# Altium footprint library SparkFun-RF.PCBLIB: 87 footprints (part 2 of 6)
Each footprint in its own frame and in the unit in brackets; x right, y up, seen from the top. Pads: shape width x height; smd on the part's side, far side on the other; paste and mask are expansions set on the pad; w line width, h text height; cw(c..) or ccw(c..) is an arc to the next point about the centre after c.
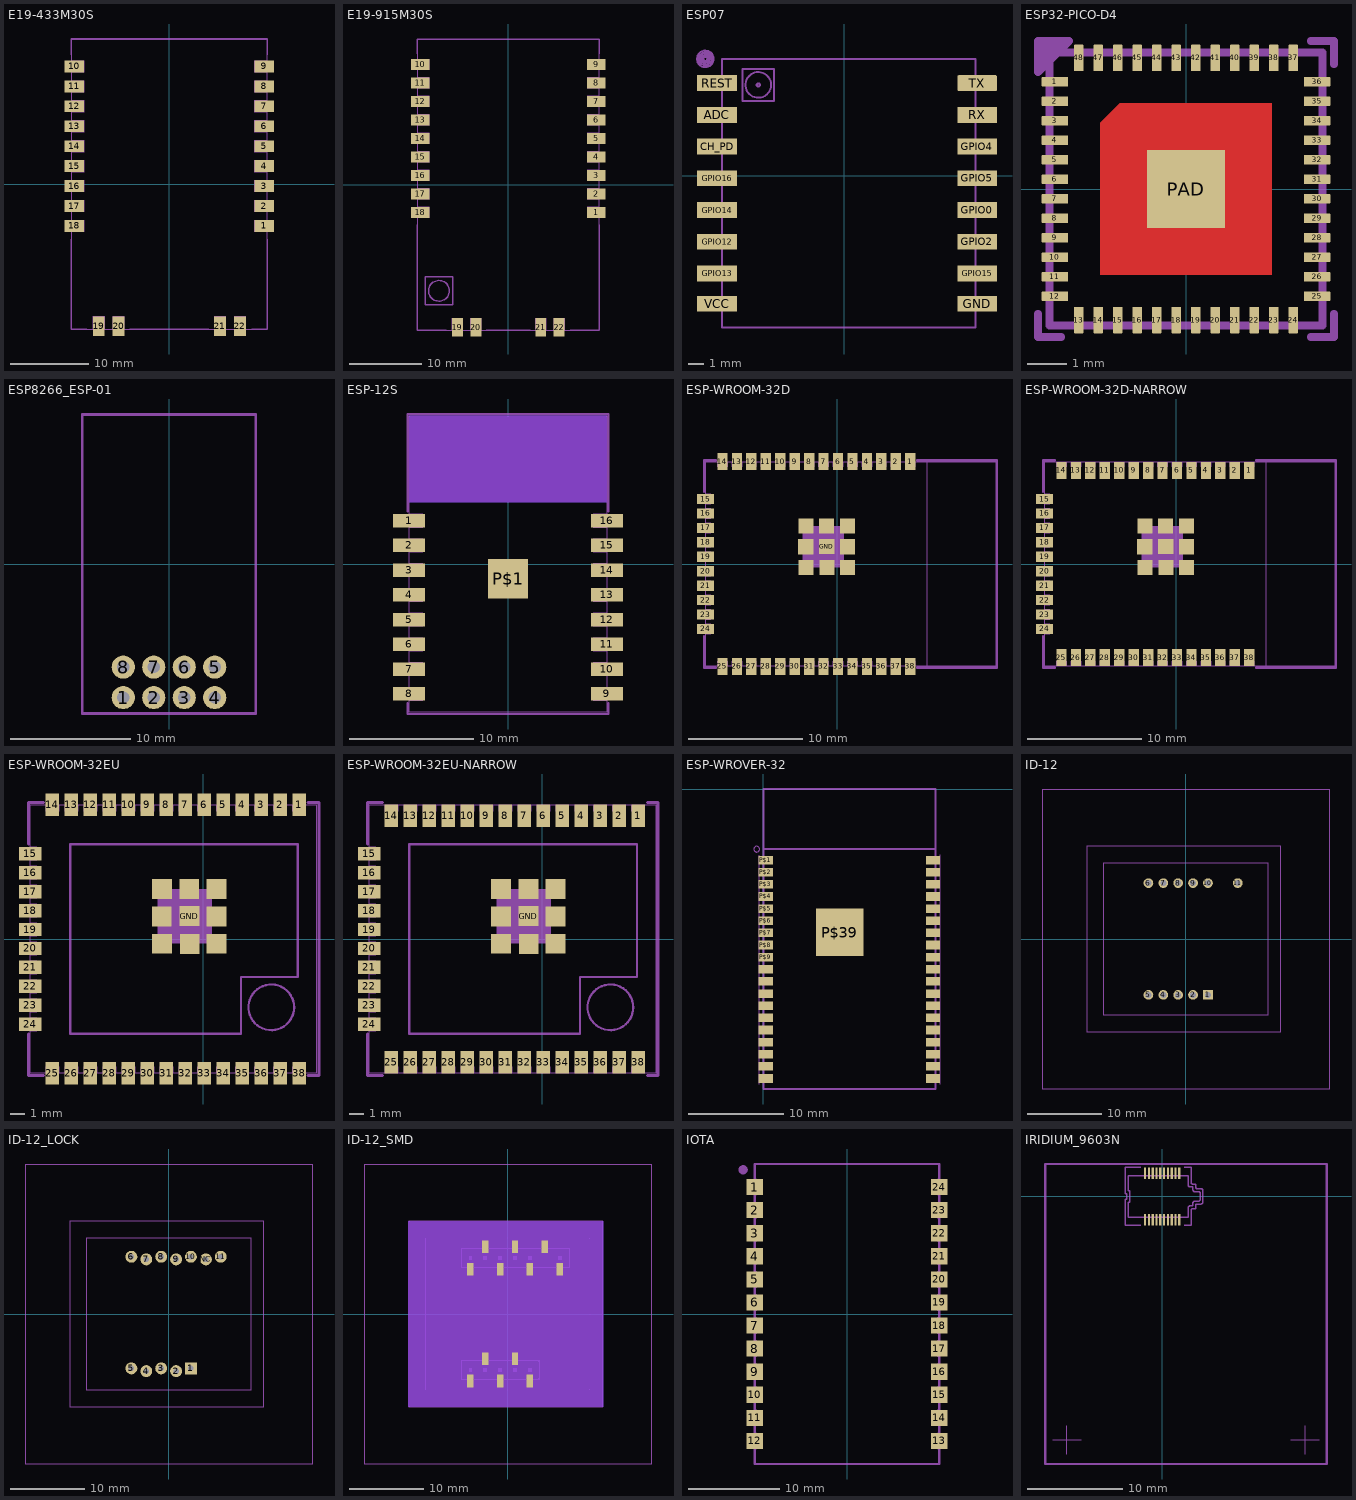
[diagram p1: the footprints below, top view; thin cyan lines are the x and y axes]

## E19-433M30S [mm]
pads (22):
  rect 2.5x1.5 smd paste+0: 1(12.1,-5.32) 2(12.1,-2.78) 3(12.1,-0.24) 4(12.1,2.3) 5(12.1,4.84) 6(12.1,7.38) 7(12.1,9.92) 8(12.1,12.46) 9(12.1,15) 10(-12.1,15) 11(-12.1,12.46) 12(-12.1,9.92) 13(-12.1,7.38) 14(-12.1,4.84) 15(-12.1,2.3) 16(-12.1,-0.24) 17(-12.1,-2.78) 18(-12.1,-5.32)
  rect 1.5x2.5 smd paste+0: 19(-9,-18.1) 20(-6.46,-18.1) 21(6.46,-18.1) 22(9,-18.1)
Top Paste:
  region: -10.4,16.1 -10.4,13.9 -13.8,13.9 -13.8,16.1
  region: -10.127,-16.473 -7.873,-16.473 -7.873,-19.727 -10.127,-19.727
  region: -7.587,-16.473 -5.333,-16.473 -5.333,-19.727 -7.587,-19.727
  region: 5.333,-16.473 7.587,-16.473 7.587,-19.727 5.333,-19.727
  region: 7.873,-16.473 10.127,-16.473 10.127,-19.727 7.873,-19.727
  region: -10.4,13.56 -10.4,11.36 -13.8,11.36 -13.8,13.56
  region: -10.4,11.02 -10.4,8.82 -13.8,8.82 -13.8,11.02
  region: -10.4,8.48 -10.4,6.28 -13.8,6.28 -13.8,8.48
  region: -10.4,5.94 -10.4,3.74 -13.8,3.74 -13.8,5.94
  region: -10.4,3.4 -10.4,1.2 -13.8,1.2 -13.8,3.4
  region: -10.4,0.86 -10.4,-1.34 -13.8,-1.34 -13.8,0.86
  region: -10.4,-1.68 -10.4,-3.88 -13.8,-3.88 -13.8,-1.68
  region: -10.4,-4.22 -10.4,-6.42 -13.8,-6.42 -13.8,-4.22
  region: 13.73,16.1 13.73,13.9 10.33,13.9 10.33,16.1
  region: 13.73,13.56 13.73,11.36 10.33,11.36 10.33,13.56
  region: 13.73,11.02 13.73,8.82 10.33,8.82 10.33,11.02
  region: 13.73,8.48 13.73,6.28 10.33,6.28 10.33,8.48
  region: 13.73,5.94 13.73,3.74 10.33,3.74 10.33,5.94
  region: 13.73,3.4 13.73,1.2 10.33,1.2 10.33,3.4
  region: 13.73,0.86 13.73,-1.34 10.33,-1.34 10.33,0.86
  region: 13.73,-1.68 13.73,-3.88 10.33,-3.88 10.33,-1.68
  region: 13.73,-4.22 13.73,-6.42 10.33,-6.42 10.33,-4.22
tDocu:
  region: 10.85,14.25 10.85,15.75 12.5,15.75 12.5,14.25
  region: 10.85,11.71 10.85,13.21 12.5,13.21 12.5,11.71
  region: 10.85,9.17 10.85,10.67 12.5,10.67 12.5,9.17
  region: 10.85,6.63 10.85,8.13 12.5,8.13 12.5,6.63
  region: 10.85,4.09 10.85,5.59 12.5,5.59 12.5,4.09
  region: 10.85,1.55 10.85,3.05 12.5,3.05 12.5,1.55
  region: 10.85,-0.99 10.85,0.51 12.5,0.51 12.5,-0.99
  region: 10.85,-3.53 10.85,-2.03 12.5,-2.03 12.5,-3.53
  region: 10.85,-6.07 10.85,-4.57 12.5,-4.57 12.5,-6.07
  region: -10.85,15.75 -10.85,14.25 -12.5,14.25 -12.5,15.75
  region: -10.85,13.21 -10.85,11.71 -12.5,11.71 -12.5,13.21
  region: -10.85,10.67 -10.85,9.17 -12.5,9.17 -12.5,10.67
  region: -10.85,8.13 -10.85,6.63 -12.5,6.63 -12.5,8.13
  region: -10.85,5.59 -10.85,4.09 -12.5,4.09 -12.5,5.59
  region: -10.85,3.05 -10.85,1.55 -12.5,1.55 -12.5,3.05
  region: -10.85,0.51 -10.85,-0.99 -12.5,-0.99 -12.5,0.51
  region: -10.85,-2.03 -10.85,-3.53 -12.5,-3.53 -12.5,-2.03
  region: -10.85,-4.57 -10.85,-6.07 -12.5,-6.07 -12.5,-4.57
  region: -9.75,-16.85 -8.25,-16.85 -8.25,-18.5 -9.75,-18.5
  region: -7.21,-16.85 -5.71,-16.85 -5.71,-18.5 -7.21,-18.5
  region: 5.71,-16.85 7.21,-16.85 7.21,-18.5 5.71,-18.5
  region: 8.25,-16.85 9.75,-16.85 9.75,-18.5 8.25,-18.5
  lines w0.1: -12.5,-18.5 -12.5,18.5 12.5,18.5 12.5,-18.5 -12.5,-18.5
tPlace:
  lines w0.203: -12.5,-7 -12.5,-18.5 -10.5,-18.5 ; -12.5,16.5 -12.5,18.5 12.5,18.5 12.5,16.5 ; -5,-18.5 5,-18.5 ; 10.5,-18.5 12.5,-18.5 12.5,-7

## E19-915M30S [mm]
pads (22):
  rect 2.5x1.5 smd paste+0: 1(12.1,-3.82) 2(12.1,-1.28) 3(12.1,1.26) 4(12.1,3.8) 5(12.1,6.34) 6(12.1,8.88) 7(12.1,11.42) 8(12.1,13.96) 9(12.1,16.5) 10(-12.1,16.5) 11(-12.1,13.96) 12(-12.1,11.42) 13(-12.1,8.88) 14(-12.1,6.34) 15(-12.1,3.8) 16(-12.1,1.26) 17(-12.1,-1.28) 18(-12.1,-3.82)
  rect 1.5x2.5 smd paste+0: 19(-7,-19.6) 20(-4.46,-19.6) 21(4.46,-19.6) 22(7,-19.6)
Top Paste:
  region: -10.4,17.6 -10.4,15.4 -13.8,15.4 -13.8,17.6
  region: -8.127,-17.973 -5.873,-17.973 -5.873,-21.227 -8.127,-21.227
  region: -5.587,-17.973 -3.333,-17.973 -3.333,-21.227 -5.587,-21.227
  region: 3.333,-17.973 5.587,-17.973 5.587,-21.227 3.333,-21.227
  region: 5.873,-17.973 8.127,-17.973 8.127,-21.227 5.873,-21.227
  region: -10.4,15.06 -10.4,12.86 -13.8,12.86 -13.8,15.06
  region: -10.4,12.52 -10.4,10.32 -13.8,10.32 -13.8,12.52
  region: -10.4,9.98 -10.4,7.78 -13.8,7.78 -13.8,9.98
  region: -10.4,7.44 -10.4,5.24 -13.8,5.24 -13.8,7.44
  region: -10.4,4.9 -10.4,2.7 -13.8,2.7 -13.8,4.9
  region: -10.4,2.36 -10.4,0.16 -13.8,0.16 -13.8,2.36
  region: -10.4,-0.18 -10.4,-2.38 -13.8,-2.38 -13.8,-0.18
  region: -10.4,-2.72 -10.4,-4.92 -13.8,-4.92 -13.8,-2.72
  region: 13.73,17.6 13.73,15.4 10.33,15.4 10.33,17.6
  region: 13.73,15.06 13.73,12.86 10.33,12.86 10.33,15.06
  region: 13.73,12.52 13.73,10.32 10.33,10.32 10.33,12.52
  region: 13.73,9.98 13.73,7.78 10.33,7.78 10.33,9.98
  region: 13.73,7.44 13.73,5.24 10.33,5.24 10.33,7.44
  region: 13.73,4.9 13.73,2.7 10.33,2.7 10.33,4.9
  region: 13.73,2.36 13.73,0.16 10.33,0.16 10.33,2.36
  region: 13.73,-0.18 13.73,-2.38 10.33,-2.38 10.33,-0.18
  region: 13.73,-2.72 13.73,-4.92 10.33,-4.92 10.33,-2.72
tDocu:
  region: 10.85,15.75 10.85,17.25 12.5,17.25 12.5,15.75
  region: 10.85,13.21 10.85,14.71 12.5,14.71 12.5,13.21
  region: 10.85,10.67 10.85,12.17 12.5,12.17 12.5,10.67
  region: 10.85,8.13 10.85,9.63 12.5,9.63 12.5,8.13
  region: 10.85,5.59 10.85,7.09 12.5,7.09 12.5,5.59
  region: 10.85,3.05 10.85,4.55 12.5,4.55 12.5,3.05
  region: 10.85,0.51 10.85,2.01 12.5,2.01 12.5,0.51
  region: 10.85,-2.03 10.85,-0.53 12.5,-0.53 12.5,-2.03
  region: 10.85,-4.57 10.85,-3.07 12.5,-3.07 12.5,-4.57
  region: -10.85,17.25 -10.85,15.75 -12.5,15.75 -12.5,17.25
  region: -10.85,14.71 -10.85,13.21 -12.5,13.21 -12.5,14.71
  region: -10.85,12.17 -10.85,10.67 -12.5,10.67 -12.5,12.17
  region: -10.85,9.63 -10.85,8.13 -12.5,8.13 -12.5,9.63
  region: -10.85,7.09 -10.85,5.59 -12.5,5.59 -12.5,7.09
  region: -10.85,4.55 -10.85,3.05 -12.5,3.05 -12.5,4.55
  region: -10.85,2.01 -10.85,0.51 -12.5,0.51 -12.5,2.01
  region: -10.85,-0.53 -10.85,-2.03 -12.5,-2.03 -12.5,-0.53
  region: -10.85,-3.07 -10.85,-4.57 -12.5,-4.57 -12.5,-3.07
  region: -7.75,-18.35 -6.25,-18.35 -6.25,-20 -7.75,-20
  region: -5.21,-18.35 -3.71,-18.35 -3.71,-20 -5.21,-20
  region: 3.71,-18.35 5.21,-18.35 5.21,-20 3.71,-20
  region: 6.25,-18.35 7.75,-18.35 7.75,-20 6.25,-20
  lines w0.1: -12.5,-20 -12.5,20 12.5,20 12.5,-20 -12.5,-20
tPlace:
  circle w0.203: c-9.525,-14.605 r1.42
  lines w0.203: -12.5,-5.5 -12.5,-20 -8.5,-20 ; -12.5,18 -12.5,20 12.5,20 12.5,18 ; -3,-20 3,-20 ; 8.5,-20 12.5,-20 12.5,-5.5 ; -11.43,-16.51 -7.62,-16.51 -7.62,-12.7 -11.43,-12.7 -11.43,-16.51

## ESP07 [mm]
pads (16):
  rect 2.5x1 smd: ADC(-8.026,3.841) CH_PD(-8.026,1.841) GND(8.374,-8.064) GPIO0(8.374,-2.159) GPIO2(8.374,-4.159) GPIO4(8.374,1.841) GPIO5(8.374,-0.159) GPIO12(-8.026,-4.159) GPIO13(-8.026,-6.159) GPIO14(-8.026,-2.159) GPIO15(8.374,-6.159) GPIO16(-8.026,-0.159) REST(-8.026,5.841) RX(8.374,3.841) VCC(-8.026,-8.064)
  rrect17% 2.5x1 smd: TX(8.374,5.841)
tPlace:
  circle w0.127: c-5.426,5.726 r0.806
  circle w0.127: c-5.426,5.726 r0.1
  circle w0.127: c-8.763,7.366 r0.127
  circle w0.127: c-8.763,7.366 r0.254
  circle w0.127: c-8.763,7.366 r0.381
  circle w0.127: c-8.763,7.366 r0.524
  circle w0.127: c-8.763,7.366 r0.402
  lines w0.127: -7.726,-9.559 -7.726,7.361 8.274,7.361 8.274,-9.559 -7.726,-9.559 ; -6.426,4.726 -6.426,6.726 -4.426,6.726 -4.426,4.726 -6.426,4.726

## ESP32-PICO-D4 [mm]
pads (49):
  rrect20% 0.68x0.25 smd paste+0 mask+0: 1(-3.365,2.75) 2(-3.365,2.25) 3(-3.365,1.75) 4(-3.365,1.25) 5(-3.365,0.75) 6(-3.365,0.25) 7(-3.365,-0.25) 8(-3.365,-0.75) 9(-3.365,-1.25) 10(-3.365,-1.75) 11(-3.365,-2.25) 12(-3.365,-2.75) 25(3.365,-2.75) 26(3.365,-2.25) 27(3.365,-1.75) 28(3.365,-1.25) 29(3.365,-0.75) 30(3.365,-0.25) 31(3.365,0.25) 32(3.365,0.75) 33(3.365,1.25) 34(3.365,1.75) 35(3.365,2.25) 36(3.365,2.75)
  rrect20% 0.25x0.68 smd paste+0 mask+0: 13(-2.75,-3.365) 14(-2.25,-3.365) 15(-1.75,-3.365) 16(-1.25,-3.365) 17(-0.75,-3.365) 18(-0.25,-3.365) 19(0.25,-3.365) 20(0.75,-3.365) 21(1.25,-3.365) 22(1.75,-3.365) 23(2.25,-3.365) 24(2.75,-3.365) 37(2.75,3.365) 38(2.25,3.365) 39(1.75,3.365) 40(1.25,3.365) 41(0.75,3.365) 42(0.25,3.365) 43(-0.25,3.365) 44(-0.75,3.365) 45(-1.25,3.365) 46(-1.75,3.365) 47(-2.25,3.365) 48(-2.75,3.365)
  rect 2x2 smd paste+0 mask+0: PAD(0,0)
Top:
  region: 2.2,2.2 -1.7,2.2 -2.2,1.7 -2.2,-2.2 2.2,-2.2
Top Paste:
  drawing of 64 lines, arcs and shapes, not listed
Top Solder:
  drawing of 49 lines, arcs and shapes, not listed
tDocu:
  lines w0.2: -3.5,-3.5 3.5,-3.5 3.5,3.5 -3.5,3.5 -3.5,-3.5
tPlace:
  lines w0.2: -3.8,-3.2 -3.8,-3.8 -3.2,-3.8 ; -3.7,3.4 -3.4,3.7 -3.7,3.7 -3.7,3.5 ; 3.2,-3.8 3.8,-3.8 3.8,-3.2 ; 3.2,3.8 3.8,3.8 3.8,3.2 ; -3.8,3.2 -3.8,3.8 -3.2,3.8 ; -3.8,3.2 -3.2,3.8 ; -3.8,3.2 -3.8,3 -3,3.8 -3.2,3.8

## ESP8266_ESP-01 [mil]
pads (8):
  round 76 hole 40: 1(-150,-438.19) 2(-50,-438.19) 3(50,-438.19) 4(150,-438.19) 5(150,-338.19) 6(50,-338.19) 7(-50,-338.19) 8(-150,-338.19)
tDocu:
  lines w1: -281.5,-488.19 -281.5,488.19 281.5,488.19 281.5,-488.19 -281.5,-488.19
tPlace:
  lines w8: -285.5,-492.19 -285.5,492.19 285.5,492.19 285.5,-492.19 -285.5,-492.19

## ESP-12S [mm]
pads (17):
  rect 2.6x1.1 smd: 1(-8,3.5) 2(-8,1.5) 3(-8,-0.5) 4(-8,-2.5) 5(-8,-4.5) 6(-8,-6.5) 7(-8,-8.5) 8(-8,-10.5) 9(8,-10.5) 10(8,-8.5) 11(8,-6.5) 12(8,-4.5) 13(8,-2.5) 14(8,-0.5) 15(8,1.5) 16(8,3.5)
  rect 3.2x3.2 smd paste+0: P$1(0,-1.2)
Top keep-out:
  region: -8,5 8,5 8,12 -8,12
Bottom keep-out:
  region: 8,5 -8,5 -8,12 8,12
Top Paste:
  region: -1.016,-2.159 -1.016,-0.159 0.984,-0.159 0.984,-2.159
tDocu:
  region: -8,-11.05 -8,-9.95 -6.9,-9.95 -6.9,-11.05
  region: -8,-9.05 -8,-7.95 -6.9,-7.95 -6.9,-9.05
  region: -8,-7.05 -8,-5.95 -6.9,-5.95 -6.9,-7.05
  region: -8,-5.05 -8,-3.95 -6.9,-3.95 -6.9,-5.05
  region: -8,-3.05 -8,-1.95 -6.9,-1.95 -6.9,-3.05
  region: -8,-1.05 -8,0.05 -6.9,0.05 -6.9,-1.05
  region: -8,0.95 -8,2.05 -6.9,2.05 -6.9,0.95
  region: -8,2.95 -8,4.05 -6.9,4.05 -6.9,2.95
  region: 8,-9.95 8,-11.05 6.9,-11.05 6.9,-9.95
  region: 8,-7.95 8,-9.05 6.9,-9.05 6.9,-7.95
  region: 8,-5.95 8,-7.05 6.9,-7.05 6.9,-5.95
  region: 8,-3.95 8,-5.05 6.9,-5.05 6.9,-3.95
  region: 8,-1.95 8,-3.05 6.9,-3.05 6.9,-1.95
  region: 8,0.05 8,-1.05 6.9,-1.05 6.9,0.05
  region: 8,2.05 8,0.95 6.9,0.95 6.9,2.05
  region: 8,4.05 8,2.95 6.9,2.95 6.9,4.05
  lines w0.003: -8,-12 -8,12 8,12 8,-12 -8,-12
tPlace:
  lines w0.178: -8.127,-11.241 -8.127,-12.127 8.127,-12.127 8.127,-11.241 ; -8.127,4.256 -8.127,12.127 8.127,12.127 8.127,4.256

## ESP-WROOM-32D [mm]
pads (47):
  rect 0.9x1.5 smd: 1(6.43,9) 2(5.16,9) 3(3.89,9) 4(2.62,9) 5(1.35,9) 6(0.08,9) 7(-1.19,9) 8(-2.46,9) 9(-3.73,9) 10(-5,9) 11(-6.27,9) 12(-7.54,9) 13(-8.81,9) 14(-10.08,9) 25(-10.08,-9) 26(-8.81,-9) 27(-7.54,-9) 28(-6.27,-9) 29(-5,-9) 30(-3.73,-9) 31(-2.46,-9) 32(-1.19,-9) 33(0.08,-9) 34(1.35,-9) 35(2.62,-9) 36(3.89,-9) 37(5.16,-9) 38(6.43,-9)
  rect 1.5x0.9 smd: 15(-11.57,5.715) 16(-11.57,4.445) 17(-11.57,3.175) 18(-11.57,1.905) 19(-11.57,0.635) 20(-11.57,-0.635) 21(-11.57,-1.905) 22(-11.57,-3.175) 23(-11.57,-4.445) 24(-11.57,-5.715)
  rect 1.33x1.33 smd: GND(-0.912,1.531) GNDT1(-2.751,3.346) GNDT2(-2.761,1.516) GNDT3(-2.751,-0.314) GNDT4(-0.891,-0.324) GNDT5(0.909,-0.314) GNDT6(0.909,1.516) GNDT7(0.909,3.346) GNDT8(-0.921,3.346)
tDocu:
  drawing of 46 lines, arcs and shapes, not listed
  text "Keepout Zone" at 10.93,0 h1.97
tPlace:
  lines w0.203: -11.697,-6.35 -11.697,-9.127 -10.67,-9.127 ; -11.697,6.35 -11.697,9.127 -10.67,9.127 ; 7.041,-9.127 14.057,-9.127 14.057,9.127 7.041,9.127

## ESP-WROOM-32D-NARROW [mm]
pads (47):
  rect 0.9x1.5 smd: 1(6.43,8.238) 2(5.16,8.238) 3(3.89,8.238) 4(2.62,8.238) 5(1.35,8.238) 6(0.08,8.238) 7(-1.19,8.238) 8(-2.46,8.238) 9(-3.73,8.238) 10(-5,8.238) 11(-6.27,8.238) 12(-7.54,8.238) 13(-8.81,8.238) 14(-10.08,8.238) 25(-10.08,-8.238) 26(-8.81,-8.238) 27(-7.54,-8.238) 28(-6.27,-8.238) 29(-5,-8.238) 30(-3.73,-8.238) 31(-2.46,-8.238) 32(-1.19,-8.238) 33(0.08,-8.238) 34(1.35,-8.238) 35(2.62,-8.238) 36(3.89,-8.238) 37(5.16,-8.238) 38(6.43,-8.238)
  rect 1.5x0.9 smd: 15(-11.57,5.715) 16(-11.57,4.445) 17(-11.57,3.175) 18(-11.57,1.905) 19(-11.57,0.635) 20(-11.57,-0.635) 21(-11.57,-1.905) 22(-11.57,-3.175) 23(-11.57,-4.445) 24(-11.57,-5.715)
  rect 1.33x1.33 smd: GND1(-0.912,1.531) GNDT1(-2.751,3.346) GNDT2(-2.761,1.516) GNDT3(-2.751,-0.314) GNDT4(-0.891,-0.324) GNDT5(0.909,-0.314) GNDT6(0.909,1.516) GNDT7(0.909,3.346) GNDT8(-0.921,3.346)
tDocu:
  drawing of 46 lines, arcs and shapes, not listed
  text "Keepout Zone" at 10.93,0 h1.97
tPlace:
  lines w0.203: -11.697,-6.35 -11.697,-9.127 -10.67,-9.127 ; -11.697,6.35 -11.697,9.127 -10.67,9.127 ; 7.041,-9.127 14.057,-9.127 14.057,9.127 7.041,9.127

## ESP-WROOM-32EU [mm]
pads (47):
  rect 0.9x1.5 smd: 1(6.43,9) 2(5.16,9) 3(3.89,9) 4(2.62,9) 5(1.35,9) 6(0.08,9) 7(-1.19,9) 8(-2.46,9) 9(-3.73,9) 10(-5,9) 11(-6.27,9) 12(-7.54,9) 13(-8.81,9) 14(-10.08,9) 25(-10.08,-9) 26(-8.81,-9) 27(-7.54,-9) 28(-6.27,-9) 29(-5,-9) 30(-3.73,-9) 31(-2.46,-9) 32(-1.19,-9) 33(0.08,-9) 34(1.35,-9) 35(2.62,-9) 36(3.89,-9) 37(5.16,-9) 38(6.43,-9)
  rect 1.5x0.9 smd: 15(-11.57,5.715) 16(-11.57,4.445) 17(-11.57,3.175) 18(-11.57,1.905) 19(-11.57,0.635) 20(-11.57,-0.635) 21(-11.57,-1.905) 22(-11.57,-3.175) 23(-11.57,-4.445) 24(-11.57,-5.715)
  rect 1.33x1.33 smd: GND(-0.912,1.531) GNDT1(-2.751,3.346) GNDT2(-2.761,1.516) GNDT3(-2.751,-0.314) GNDT4(-0.891,-0.324) GNDT5(0.909,-0.314) GNDT6(0.909,1.516) GNDT7(0.909,3.346) GNDT8(-0.921,3.346)
tDocu:
  drawing of 50 lines, arcs and shapes, not listed
  text "U.FL" at 3.429,-4.953 h0.69
tPlace:
  lines w0.203: -11.697,-6.35 -11.697,-9.127 -10.67,-9.127 ; -11.697,6.35 -11.697,9.127 -10.67,9.127 ; 7.041,-9.127 7.764,-9.127 7.764,9.127 7.041,9.127

## ESP-WROOM-32EU-NARROW [mm]
pads (47):
  rect 0.9x1.5 smd: 1(6.43,8.238) 2(5.16,8.238) 3(3.89,8.238) 4(2.62,8.238) 5(1.35,8.238) 6(0.08,8.238) 7(-1.19,8.238) 8(-2.46,8.238) 9(-3.73,8.238) 10(-5,8.238) 11(-6.27,8.238) 12(-7.54,8.238) 13(-8.81,8.238) 14(-10.08,8.238) 25(-10.08,-8.238) 26(-8.81,-8.238) 27(-7.54,-8.238) 28(-6.27,-8.238) 29(-5,-8.238) 30(-3.73,-8.238) 31(-2.46,-8.238) 32(-1.19,-8.238) 33(0.08,-8.238) 34(1.35,-8.238) 35(2.62,-8.238) 36(3.89,-8.238) 37(5.16,-8.238) 38(6.43,-8.238)
  rect 1.5x0.9 smd: 15(-11.57,5.715) 16(-11.57,4.445) 17(-11.57,3.175) 18(-11.57,1.905) 19(-11.57,0.635) 20(-11.57,-0.635) 21(-11.57,-1.905) 22(-11.57,-3.175) 23(-11.57,-4.445) 24(-11.57,-5.715)
  rect 1.33x1.33 smd: GND(-0.912,1.531) GNDT1(-2.751,3.346) GNDT2(-2.761,1.516) GNDT3(-2.751,-0.314) GNDT4(-0.891,-0.324) GNDT5(0.909,-0.314) GNDT6(0.909,1.516) GNDT7(0.909,3.346) GNDT8(-0.921,3.346)
tDocu:
  drawing of 50 lines, arcs and shapes, not listed
  text "U.FL" at 3.429,-4.953 h0.69
tPlace:
  lines w0.203: -11.697,-6.35 -11.697,-9.127 -10.67,-9.127 ; -11.697,6.35 -11.697,9.127 -10.67,9.127 ; 7.041,-9.127 7.758,-9.127 7.758,9.127 7.041,9.127

## ESP-WROVER-32 [mm]
pads (39):
  rect 1.5x0.9 smd: P$1(0.25,-7.44) P$2(0.25,-8.71) P$3(0.25,-9.98) P$4(0.25,-11.25) P$5(0.25,-12.52) P$6(0.25,-13.79) P$7(0.25,-15.06) P$8(0.25,-16.33) P$9(0.25,-17.6) P$10(0.25,-18.87) P$11(0.25,-20.14) P$12(0.25,-21.41) P$13(0.25,-22.68) P$14(0.25,-23.95) P$15(0.25,-25.22) P$16(0.25,-26.49) P$17(0.25,-27.76) P$18(0.25,-29.03) P$19(0.25,-30.3) P$20(17.75,-30.3) P$21(17.75,-29.03) P$22(17.75,-27.76) P$23(17.75,-26.49) P$24(17.75,-25.22) P$25(17.75,-23.95) P$26(17.75,-22.68) P$27(17.75,-21.41) P$28(17.75,-20.14) P$29(17.75,-18.87) P$30(17.75,-17.6) P$31(17.75,-16.33) P$32(17.75,-15.06) P$33(17.75,-13.79) P$34(17.75,-12.52) P$35(17.75,-11.25) P$36(17.75,-9.98) P$37(17.75,-8.71) P$38(17.75,-7.44)
  rect 5x5 smd paste+0: P$39(8,-15)
Top Paste:
  region: 6.5,-16.5 6.5,-13.5 9.5,-13.5 9.5,-16.5
tDocu:
  lines w0: -0.5,-30.91 -0.5,-6.94 ; 18.5,-30.88 18.5,-6.86
  lines w0.203: 0,-6.3 0,-31.4 18,-31.4 18,-6.3 ; 0,-6.3 0,0 18,0 18,-6.3 ; 0,-6.3 18,-6.3
tPlace:
  circle w0: c-0.7,-6.3 r0.3
  lines w0.203: 0,-31 0,-31.4 18,-31.4 18,-31

## ID-12 [mil]
pads (11):
  rect 51.5x51.5 / inner round 47.58 / far side rect 51.5x51.5 hole 31.5: 1(118.11,-295.28)
  round 51.5 hole 31.5: 2(39.37,-295.28) 3(-39.37,-295.28) 4(-118.11,-295.28) 5(-196.85,-295.28) 6(-196.85,295.28) 7(-118.11,295.28) 8(-39.37,295.28) 9(39.37,295.28) 10(118.11,295.28) 11(275.59,295.28)
tDocu:
  lines w5: -755.91,-793.31 -755.91,793.31 759.84,793.31 759.84,-793.31 -755.91,-793.31 ; -523.62,-490.16 503.94,-490.16 503.94,490.16 -523.62,490.16 -523.62,-490.16 ; -433.07,-403.54 -433.07,403.54 433.07,403.54 433.07,-403.54 -433.07,-403.54
  text "ID-2" at -3.94,409.45 h20.4
  text "ID-12" at -3.94,496.06 h20.4
  text "ID-20" at -3.94,799.21 h20.4

## ID-12_LOCK [mil]
pads (12):
  rect 63x63 / inner round 58.2 / far side rect 63x63 hole 29: 1(118.07,-287.83)
  round 63 hole 29: 2(39.33,-301.83) 3(-39.41,-287.83) 4(-118.15,-301.83) 5(-196.89,-287.83) 6(-196.89,302.72) 7(-118.15,288.72) 8(-39.41,302.72) 9(39.33,288.72) 10(118.07,302.72) 11(275.55,302.72) NC(197.33,288.72)
tDocu:
  region: 286.11,291.72 266.11,291.72 266.11,299.72 286.11,299.72
  region: 127.11,291.72 107.11,291.72 107.11,299.72 127.11,299.72
  region: 49.11,291.72 29.11,291.72 29.11,299.72 49.11,299.72
  region: -28.89,291.72 -48.89,291.72 -48.89,299.72 -28.89,299.72
  region: -107.89,291.72 -127.89,291.72 -127.89,299.72 -107.89,299.72
  region: -186.89,291.72 -206.89,291.72 -206.89,299.72 -186.89,299.72
  region: 128.11,-299.28 108.11,-299.28 108.11,-291.28 128.11,-291.28
  region: 49.11,-299.28 29.11,-299.28 29.11,-291.28 49.11,-291.28
  region: -30.89,-299.28 -50.89,-299.28 -50.89,-291.28 -30.89,-291.28
  region: -108.89,-299.28 -128.89,-299.28 -128.89,-291.28 -108.89,-291.28
  region: -186.89,-299.28 -206.89,-299.28 -206.89,-291.28 -186.89,-291.28
  lines w5: -755.91,-793.31 -755.91,793.31 759.84,793.31 759.84,-793.31 -755.91,-793.31 ; -523.62,-490.16 503.94,-490.16 503.94,490.16 -523.62,490.16 -523.62,-490.16 ; -433.07,-403.54 -433.07,403.54 433.07,403.54 433.07,-403.54 -433.07,-403.54
  text "NC" at 184.11,281.72 h24.8
  text "ID-2" at -3.94,409.45 h20.4
  text "ID-12" at -3.94,496.06 h20.4
  text "ID-20" at -3.94,799.21 h20.4

## ID-12_SMD [mm]
pads (12):
  rect 0.85x1.7 smd: 1(2.993,-8.998) 2(0.993,-5.998) 3(-1.007,-8.998) 4(-3.007,-5.998) 5(-5.007,-8.998) 6(-5.007,6.013) 7(-3.007,9.013) 8(-1.007,6.013) 9(0.993,9.013) 10(2.993,6.013) 11(6.993,6.013) NC(4.993,9.013)
Top keep-out:
  region: -13.335,-12.446 -13.335,12.446 12.827,12.446 12.827,-12.446
Bottom keep-out:
  region: 12.827,12.446 12.827,-12.446 -13.335,-12.446 -13.335,12.446
tDocu:
  region: -1.254,7.257 -1.254,7.765 -0.746,7.765 -0.746,7.257
  region: -3.254,7.257 -3.254,7.765 -2.746,7.765 -2.746,7.257
  region: -5.254,7.257 -5.254,7.765 -4.746,7.765 -4.746,7.257
  region: 0.746,7.257 0.746,7.765 1.254,7.765 1.254,7.257
  region: 2.746,7.257 2.746,7.765 3.254,7.765 3.254,7.257
  region: 6.746,7.257 6.746,7.765 7.254,7.765 7.254,7.257
  region: -1.254,-7.754 -1.254,-7.246 -0.746,-7.246 -0.746,-7.754
  region: -3.254,-7.754 -3.254,-7.246 -2.746,-7.246 -2.746,-7.754
  region: -5.254,-7.754 -5.254,-7.246 -4.746,-7.246 -4.746,-7.754
  region: 0.746,-7.754 0.746,-7.246 1.254,-7.246 1.254,-7.754
  region: 2.746,-7.754 2.746,-7.246 3.254,-7.246 3.254,-7.754
  lines w0.127: -19.2,-20.15 -19.2,20.15 19.3,20.15 19.3,-20.15 -19.2,-20.15 ; -13.3,-12.45 12.8,-12.45 12.8,12.45 -13.3,12.45 -13.3,-12.45 ; -11,-10.25 -11,10.25 11,10.25 11,-10.25 -11,-10.25
  lines w0.203: -6.257,-8.748 -6.257,-6.248 ; -6.257,6.263 -6.257,8.763 ; -6.244,-8.748 4.274,-8.748 4.274,-6.248 -6.244,-6.248 ; -6.244,6.263 8.338,6.263 8.338,8.763 -6.244,8.763
  text "ID-2" at -0.1,10.4 h0.52
  text "ID-12" at -0.1,12.6 h0.52
  text "ID-20" at -0.1,20.3 h0.52

## IOTA [mil]
pads (24):
  rect 70x70 smd: 1(-400,550) 2(-400,450) 3(-400,350) 4(-400,250) 5(-400,150) 6(-400,50) 7(-400,-50) 8(-400,-150) 9(-400,-250) 10(-400,-350) 11(-400,-450) 12(-400,-550) 13(400,-550) 14(400,-450) 15(400,-350) 16(400,-250) 17(400,-150) 18(400,-50) 19(400,50) 20(400,150) 21(400,250) 22(400,350) 23(400,450) 24(400,550)
tDocu:
  lines w10: -400,-650 400,-650 400,-585 cw(c420.21,-550) 400,-515 400,-485 cw(c420.21,-450) 400,-415 400,-385 cw(c420.21,-350) 400,-315 400,-285 cw(c420.21,-250) 400,-215 400,-185 cw(c420.21,-150) 400,-115 400,-85 cw(c420.21,-50) 400,-15 400,15 cw(c420.21,50) 400,85 400,115 cw(c420.21,150) 400,185 400,215 cw(c420.21,250) 400,285 400,315 cw(c420.21,350) 400,385 400,415 cw(c420.21,450) 400,485 400,515 cw(c420.21,550) 400,585 400,650 -400,650 -400,585 cw(c-420.21,550) -400,515 -400,485 cw(c-420.21,450) -400,415 -400,385 cw(c-420.21,350) -400,315 -400,285 cw(c-420.21,250) -400,215 -400,185 cw(c-420.21,150) -400,115 -400,85 cw(c-420.21,50) -400,15 -400,-15 cw(c-420.21,-50) -400,-85 -400,-115 cw(c-420.21,-150) -400,-185 -400,-215 cw(c-420.21,-250) -400,-285 -400,-315 cw(c-420.21,-350) -400,-385 -400,-415 cw(c-420.21,-450) -400,-485 -400,-515 cw(c-420.21,-550) -400,-585 -400,-650
tPlace:
  circle w20: c-450,625 r10
  lines w10: -400,-600 -400,-650 400,-650 400,-600 ; -400,600 -400,650 400,650 400,600

## IRIDIUM_9603N [mm]
pads (20):
  rect 0.23x1.2 smd paste+0 mask+0: 1(1.8,2.435) 2(1.8,-2.435) 3(1.4,2.435) 4(1.4,-2.435) 5(1,2.435) 6(1,-2.435) 7(0.6,2.435) 8(0.6,-2.435) 9(0.2,2.435) 10(0.2,-2.435) 11(-0.2,2.435) 12(-0.2,-2.435) 13(-0.6,2.435) 14(-0.6,-2.435) 15(-1,2.435) 16(-1,-2.435) 17(-1.4,2.435) 18(-1.4,-2.435) 19(-1.8,2.435) 20(-1.8,-2.435)
Top Paste:
  region: -1.9,1.9 -1.9,2.9 -1.7,2.9 -1.7,1.9
  region: -1.5,1.9 -1.5,2.9 -1.3,2.9 -1.3,1.9
  region: -1.1,1.9 -1.1,2.9 -0.9,2.9 -0.9,1.9
  region: -0.7,1.9 -0.7,2.9 -0.5,2.9 -0.5,1.9
  region: -0.3,1.9 -0.3,2.9 -0.1,2.9 -0.1,1.9
  region: 0.1,1.9 0.1,2.9 0.3,2.9 0.3,1.9
  region: 0.5,1.9 0.5,2.9 0.7,2.9 0.7,1.9
  region: 0.9,1.9 0.9,2.9 1.1,2.9 1.1,1.9
  region: 1.3,1.9 1.3,2.9 1.5,2.9 1.5,1.9
  region: 1.7,1.9 1.7,2.9 1.9,2.9 1.9,1.9
  region: -1.7,-1.9 -1.7,-2.9 -1.9,-2.9 -1.9,-1.9
  region: -0.9,-1.9 -0.9,-2.9 -1.1,-2.9 -1.1,-1.9
  region: -0.5,-1.9 -0.5,-2.9 -0.7,-2.9 -0.7,-1.9
  region: -0.1,-1.9 -0.1,-2.9 -0.3,-2.9 -0.3,-1.9
  region: 0.3,-1.9 0.3,-2.9 0.1,-2.9 0.1,-1.9
  region: 0.7,-1.9 0.7,-2.9 0.5,-2.9 0.5,-1.9
  region: 1.1,-1.9 1.1,-2.9 0.9,-2.9 0.9,-1.9
  region: 1.5,-1.9 1.5,-2.9 1.3,-2.9 1.3,-1.9
  region: 1.9,-1.9 1.9,-2.9 1.7,-2.9 1.7,-1.9
  region: -1.3,-1.9 -1.3,-2.9 -1.5,-2.9 -1.5,-1.9
Top Solder:
  region: -1.975,1.75 -1.975,3.1 -1.625,3.1 -1.625,1.75
  region: -1.575,1.75 -1.575,3.1 -1.225,3.1 -1.225,1.75
  region: -1.175,1.75 -1.175,3.1 -0.825,3.1 -0.825,1.75
  region: -0.775,1.75 -0.775,3.1 -0.425,3.1 -0.425,1.75
  region: -0.375,1.75 -0.375,3.1 -0.025,3.1 -0.025,1.75
  region: 0.025,1.75 0.025,3.1 0.375,3.1 0.375,1.75
  region: 0.425,1.75 0.425,3.1 0.775,3.1 0.775,1.75
  region: 0.825,1.75 0.825,3.1 1.175,3.1 1.175,1.75
  region: 1.225,1.75 1.225,3.1 1.575,3.1 1.575,1.75
  region: 1.625,1.75 1.625,3.1 1.975,3.1 1.975,1.75
  region: -1.975,-3.1 -1.975,-1.75 -1.625,-1.75 -1.625,-3.1
  region: -1.575,-3.1 -1.575,-1.75 -1.225,-1.75 -1.225,-3.1
  region: -1.175,-3.1 -1.175,-1.75 -0.825,-1.75 -0.825,-3.1
  region: -0.775,-3.1 -0.775,-1.75 -0.425,-1.75 -0.425,-3.1
  region: -0.375,-3.1 -0.375,-1.75 -0.025,-1.75 -0.025,-3.1
  region: 0.025,-3.1 0.025,-1.75 0.375,-1.75 0.375,-3.1
  region: 0.425,-3.1 0.425,-1.75 0.775,-1.75 0.775,-3.1
  region: 0.825,-3.1 0.825,-1.75 1.175,-1.75 1.175,-3.1
  region: 1.225,-3.1 1.225,-1.75 1.575,-1.75 1.575,-3.1
  region: 1.625,-3.1 1.625,-1.75 1.975,-1.75 1.975,-3.1
tDocu:
  lines w0.1: -11.5,-25.6 -8.5,-25.6 ; -10,-27.1 -10,-24.1 ; 13.5,-25.6 16.5,-25.6 ; 15,-27.1 15,-24.1
  lines w0.15: -3.56,-2.175 2.73,-2.175 2.73,-1.2 cw(c2.93,-1.2) 2.93,-1 3.13,-1 ccw(c3.13,-0.9) 3.23,-0.9 3.23,-0.7 cw(c3.43,-0.7) 3.43,-0.5 3.83,-0.5 ccw(c3.83,-0.35) 3.98,-0.35 3.98,0.35 ccw(c3.83,0.35) 3.83,0.5 3.43,0.5 cw(c3.43,0.7) 3.23,0.7 3.23,0.9 ccw(c3.13,0.9) 3.13,1 2.93,1 cw(c2.93,1.2) 2.73,1.2 2.73,2.175 -3.56,2.175 -3.56,0.6 -3.4,0.6 -3.4,-0.6 -3.56,-0.6 -3.56,-2.175
  lines w0.254: -12.3,-28.1 17.3,-28.1 17.3,3.4 -12.3,3.4 -12.3,-28.1
  text "+15.00mm" at 15.2,-25.4 h0.35
  text "-25.60mm" at 14.8,-27.3 h0.35
  text "-10.00mm" at -11.7,-25.4 h0.35
  text "-25.60mm" at -10.2,-27.3 h0.35
  text "1" at 2.159,2.413 h1.26
  text "2" at 2.159,-3.175 h1.26
  text "20" at -3.429,-3.175 h1.26
  text "19" at -3.429,2.413 h1.26
tPlace:
  lines w0.15: -2.27,-3.05 -3.86,-3.05 -3.86,-0.3 -3.7,-0.3 -3.7,0.3 -3.86,0.3 -3.86,3.05 -2.27,3.05 ; 2.34,-3.05 3.03,-3.05 3.03,-1.45 cw(c3.18,-1.45) 3.18,-1.3 3.43,-1.3 ccw(c3.43,-1.2) 3.53,-1.2 3.53,-0.9 cw(c3.63,-0.9) 3.63,-0.8 4.08,-0.8 ccw(c4.08,-0.6) 4.28,-0.6 4.28,0.6 ccw(c4.08,0.6) 4.08,0.8 3.68,0.8 cw(c3.68,0.95) 3.53,0.95 3.53,1.2 ccw(c3.43,1.2) 3.43,1.3 3.18,1.3 cw(c3.18,1.45) 3.03,1.45 3.03,3.05 2.34,3.05